# Altium schematic symbol library Transistor.SchLib: 4 symbols
Pins are listed as number, name and electrical type; pins without a type are passive.

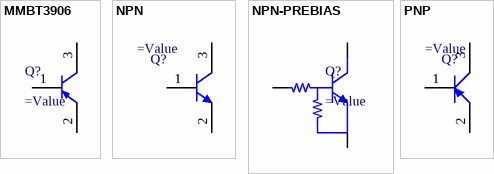
[diagram p0: symbols MMBT3906 to PNP]

## MMBT3906
designator Q?
=Description
pins: 1, 2 E, 3 C

## NPN
designator Q?
=Description
pins: 1 B, 2 E, 3 C

## NPN-PREBIAS
designator Q?
=Description
pins: 1 IN, 2 GND, 3 OUT

## PNP
designator Q?
=Description
pins: 1 B, 2 E, 3 C